# Altium footprint library Header.PcbLib: 112 footprints (part 6 of 7)
Each footprint in its own frame and in the unit in brackets; x right, y up, seen from the top. Pads: shape width x height; smd on the part's side, far side on the other; paste and mask are expansions set on the pad; w line width, h text height; cw(c..) or ccw(c..) is an arc to the next point about the centre after c.
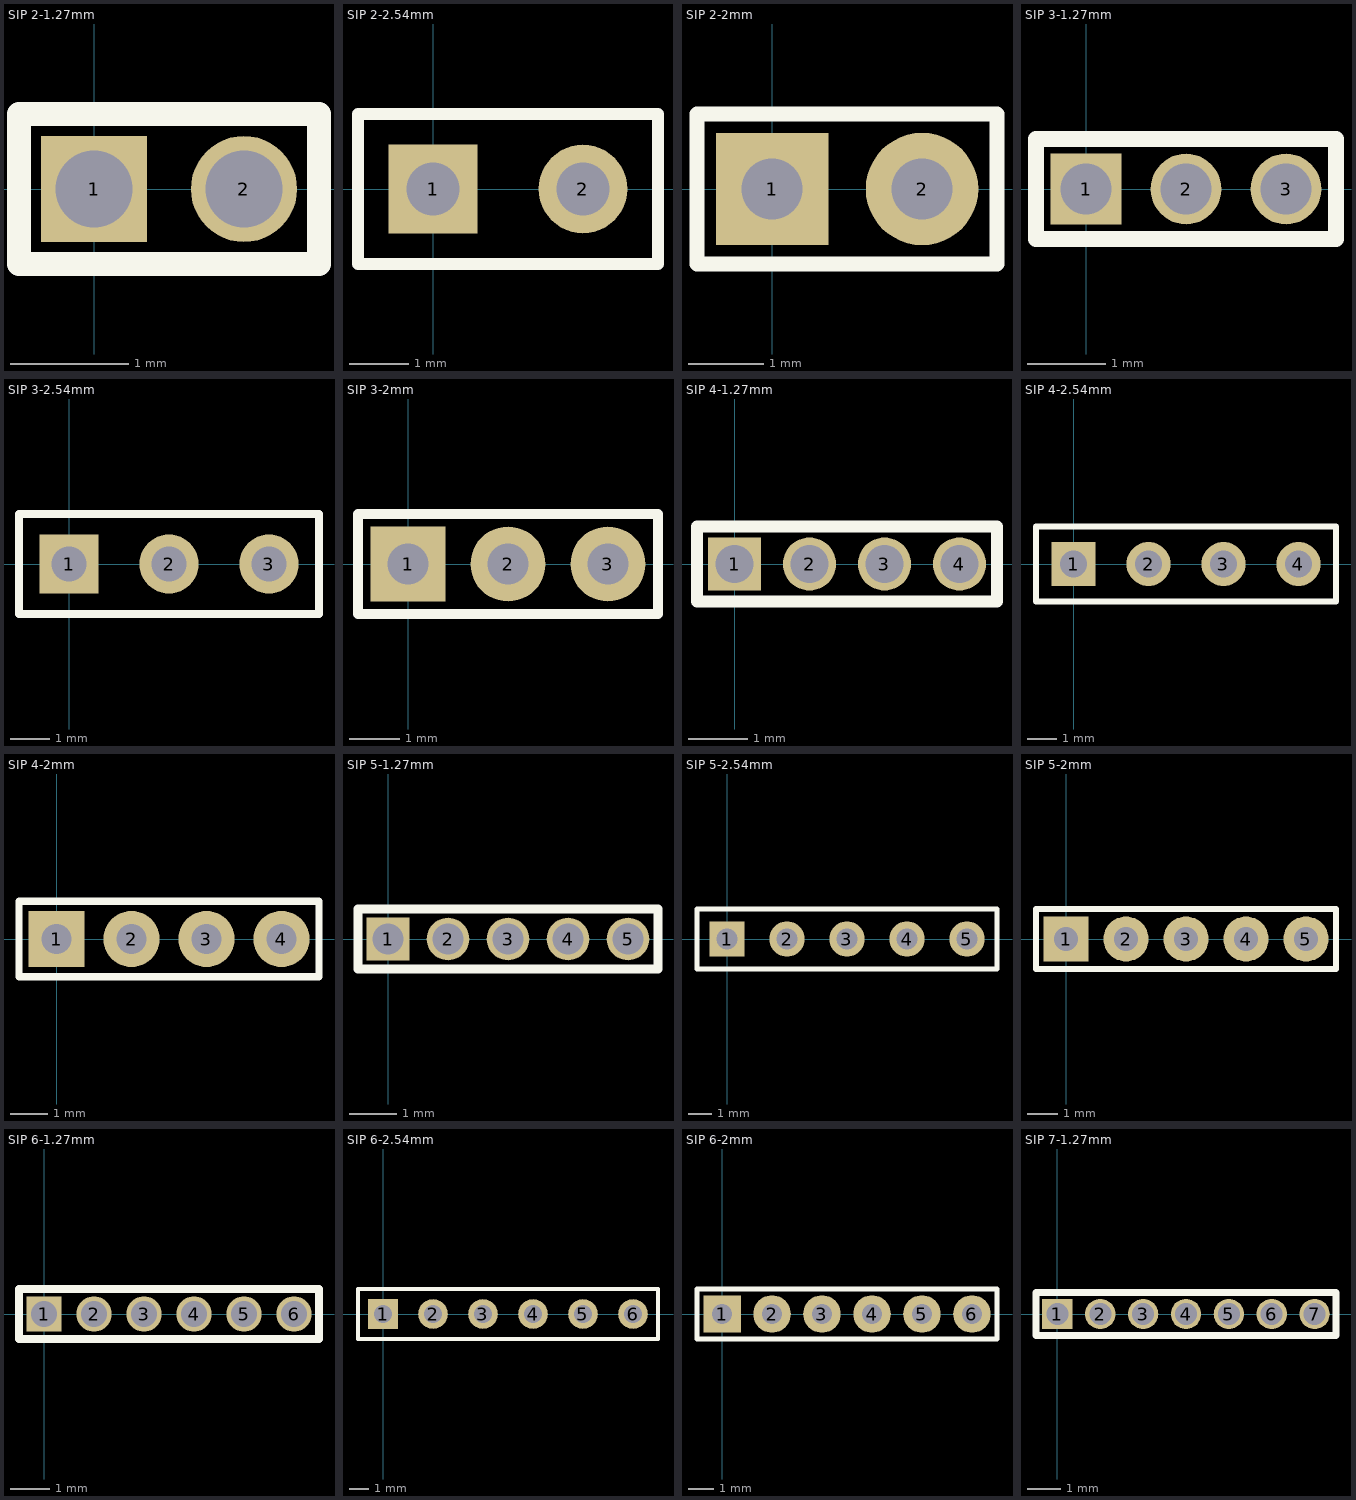
[diagram p5: the footprints below, top view; thin cyan lines are the x and y axes]

## SIP 2-1.27mm [mm]
pads (2):
  rect 0.9x0.9 hole 0.65: 1(0,0)
  round 0.9 hole 0.65: 2(1.27,0)
Top Overlay:
  lines w0.2: -0.635,-0.635 1.905,-0.635 1.905,0.635 -0.635,0.635 -0.635,-0.635
3D body: height 1, standoff 0, extent -0.625,-0.625 1.905,0.625
3D body: height 4, standoff 0, extent -0.2,-0.2 0.2,0.2
3D body: height 4, standoff 0, extent 1.07,-0.2 1.47,0.2

## SIP 2-2.54mm [mm]
pads (2):
  rect 1.5x1.5 hole 0.9: 1(0,0)
  round 1.5 hole 0.9: 2(2.54,0)
Top Overlay:
  lines w0.2: -1.27,-1.27 3.81,-1.27 3.81,1.27 -1.27,1.27 -1.27,-1.27
3D body: height 7.5, standoff 0, extent 2.215,-0.325 2.865,0.325
3D body: height 1.5, standoff 0, extent -1.275,-1.275 3.81,1.275
3D body: height 7.5, standoff 0, extent -0.325,-0.325 0.325,0.325

## SIP 2-2mm [mm]
pads (2):
  rect 1.5x1.5 hole 0.813: 1(0,0)
  round 1.5 hole 0.813: 2(2,0)
Top Overlay:
  lines w0.2: -1,-1 -1,1 3,1 3,-1 -1,-1
3D body: height 1.5, standoff 0, extent -1,-1 3,1
3D body: height 5.5, standoff 0, extent -0.25,-0.25 0.25,0.25
3D body: height 5.5, standoff 0, extent 1.75,-0.25 2.25,0.25

## SIP 3-1.27mm [mm]
pads (3):
  rect 0.9x0.9 hole 0.65: 1(0,0)
  round 0.9 hole 0.65: 2(1.27,0) 3(2.54,0)
Top Overlay:
  lines w0.2: -0.635,-0.635 3.175,-0.635 3.175,0.635 -0.635,0.635 -0.635,-0.635
3D body: height 1, standoff 0, extent -0.625,-0.625 3.175,0.625
3D body: height 4, standoff 0, extent -0.2,-0.2 0.2,0.2
3D body: height 4, standoff 0, extent 1.07,-0.2 1.47,0.2
3D body: height 4, standoff 0, extent 2.34,-0.2 2.74,0.2

## SIP 3-2.54mm [mm]
pads (3):
  rect 1.5x1.5 hole 0.9: 1(0,0)
  round 1.5 hole 0.9: 2(2.54,0) 3(5.08,0)
Top Overlay:
  lines w0.2: -1.27,-1.27 -1.27,1.27 6.35,1.27 6.35,-1.27 -1.27,-1.27
3D body: height 7.5, standoff 0, extent -0.325,-0.325 0.325,0.325
3D body: height 1.5, standoff 0, extent -1.275,-1.275 6.35,1.275
3D body: height 7.5, standoff 0, extent 2.215,-0.325 2.865,0.325
3D body: height 7.5, standoff 0, extent 4.755,-0.325 5.405,0.325

## SIP 3-2mm [mm]
pads (3):
  rect 1.5x1.5 hole 0.813: 1(0,0)
  round 1.5 hole 0.813: 2(2,0) 3(4,0)
Top Overlay:
  lines w0.2: -1,-1 -1,1 5,1 5,-1 -1,-1
3D body: height 1.5, standoff 0, extent -1,-1 5,1
3D body: height 5.5, standoff 0, extent -0.25,-0.25 0.25,0.25
3D body: height 5.5, standoff 0, extent 1.75,-0.25 2.25,0.25
3D body: height 5.5, standoff 0, extent 3.75,-0.25 4.25,0.25

## SIP 4-1.27mm [mm]
pads (4):
  rect 0.9x0.9 hole 0.65: 1(0,0)
  round 0.9 hole 0.65: 2(1.27,0) 3(2.54,0) 4(3.81,0)
Top Overlay:
  lines w0.2: -0.635,-0.635 4.445,-0.635 4.445,0.635 -0.635,0.635 -0.635,-0.635
3D body: height 1, standoff 0, extent -0.625,-0.625 4.445,0.625
3D body: height 4, standoff 0, extent -0.2,-0.2 0.2,0.2
3D body: height 4, standoff 0, extent 1.07,-0.2 1.47,0.2
3D body: height 4, standoff 0, extent 2.34,-0.2 2.74,0.2
3D body: height 4, standoff 0, extent 3.61,-0.2 4.01,0.2

## SIP 4-2.54mm [mm]
pads (4):
  rect 1.5x1.5 hole 0.9: 1(0,0)
  round 1.5 hole 0.9: 2(2.54,0) 3(5.08,0) 4(7.62,0)
Top Overlay:
  lines w0.2: -1.27,-1.27 -1.27,1.27 8.89,1.27 8.89,-1.27 -1.27,-1.27
3D body: height 7.5, standoff 0, extent -0.325,-0.325 0.325,0.325
3D body: height 1.5, standoff 0, extent -1.275,-1.275 8.89,1.275
3D body: height 7.5, standoff 0, extent 2.215,-0.325 2.865,0.325
3D body: height 7.5, standoff 0, extent 4.755,-0.325 5.405,0.325
3D body: height 7.5, standoff 0, extent 7.295,-0.325 7.945,0.325

## SIP 4-2mm [mm]
pads (4):
  rect 1.5x1.5 hole 0.813: 1(0,0)
  round 1.5 hole 0.813: 2(2,0) 3(4,0) 4(6,0)
Top Overlay:
  lines w0.2: -1,-1 7,-1 7,1 -1,1 -1,-1
3D body: height 5.5, standoff 0, extent 5.75,-0.25 6.25,0.25
3D body: height 5.5, standoff 0, extent 3.75,-0.25 4.25,0.25
3D body: height 5.5, standoff 0, extent 1.75,-0.25 2.25,0.25
3D body: height 5.5, standoff 0, extent -0.25,-0.25 0.25,0.25
3D body: height 1.5, standoff 0, extent -1,-1 7,1

## SIP 5-1.27mm [mm]
pads (5):
  rect 0.9x0.9 hole 0.65: 1(0,0)
  round 0.9 hole 0.65: 2(1.27,0) 3(2.54,0) 4(3.81,0) 5(5.08,0)
Top Overlay:
  lines w0.2: -0.635,-0.635 -0.635,0.635 5.715,0.635 5.715,-0.635 -0.635,-0.635
3D body: height 4, standoff 0, extent 4.88,-0.2 5.28,0.2
3D body: height 4, standoff 0, extent 3.61,-0.2 4.01,0.2
3D body: height 4, standoff 0, extent 2.34,-0.2 2.74,0.2
3D body: height 4, standoff 0, extent 1.07,-0.2 1.47,0.2
3D body: height 4, standoff 0, extent -0.2,-0.2 0.2,0.2
3D body: height 1, standoff 0, extent -0.625,-0.625 5.715,0.625

## SIP 5-2.54mm [mm]
pads (5):
  rect 1.5x1.5 hole 0.9: 1(0,0)
  round 1.5 hole 0.9: 2(2.54,0) 3(5.08,0) 4(7.62,0) 5(10.16,0)
Top Overlay:
  lines w0.2: -1.27,-1.27 -1.27,1.27 11.43,1.27 11.43,-1.27 -1.27,-1.27
3D body: height 7.5, standoff 0, extent -0.325,-0.325 0.325,0.325
3D body: height 1.5, standoff 0, extent -1.275,-1.275 11.43,1.275
3D body: height 7.5, standoff 0, extent 2.215,-0.325 2.865,0.325
3D body: height 7.5, standoff 0, extent 4.755,-0.325 5.405,0.325
3D body: height 7.5, standoff 0, extent 9.835,-0.325 10.485,0.325
3D body: height 7.5, standoff 0, extent 7.295,-0.325 7.945,0.325

## SIP 5-2mm [mm]
pads (5):
  rect 1.5x1.5 hole 0.813: 1(0,0)
  round 1.5 hole 0.813: 2(2,0) 3(4,0) 4(6,0) 5(8,0)
Top Overlay:
  lines w0.2: -1,-1 -1,1 9,1 9,-1 -1,-1
3D body: height 5.5, standoff 0, extent 7.75,-0.25 8.25,0.25
3D body: height 5.5, standoff 0, extent 5.75,-0.25 6.25,0.25
3D body: height 5.5, standoff 0, extent 3.75,-0.25 4.25,0.25
3D body: height 5.5, standoff 0, extent 1.75,-0.25 2.25,0.25
3D body: height 5.5, standoff 0, extent -0.25,-0.25 0.25,0.25
3D body: height 1.5, standoff 0, extent -1,-1 9.017,1

## SIP 6-1.27mm [mm]
pads (6):
  rect 0.9x0.9 hole 0.65: 1(0,0)
  round 0.9 hole 0.65: 2(1.27,0) 3(2.54,0) 4(3.81,0) 5(5.08,0) 6(6.35,0)
Top Overlay:
  lines w0.2: -0.635,-0.635 -0.635,0.635 6.985,0.635 6.985,-0.635 -0.635,-0.635
3D body: height 4, standoff 0, extent 6.15,-0.2 6.55,0.2
3D body: height 4, standoff 0, extent 4.88,-0.2 5.28,0.2
3D body: height 4, standoff 0, extent 3.61,-0.2 4.01,0.2
3D body: height 4, standoff 0, extent 2.34,-0.2 2.74,0.2
3D body: height 4, standoff 0, extent 1.07,-0.2 1.47,0.2
3D body: height 4, standoff 0, extent -0.2,-0.2 0.2,0.2
3D body: height 1, standoff 0, extent -0.625,-0.625 6.985,0.625

## SIP 6-2.54mm [mm]
pads (6):
  rect 1.5x1.5 hole 0.9: 1(0,0)
  round 1.5 hole 0.9: 2(2.54,0) 3(5.08,0) 4(7.62,0) 5(10.16,0) 6(12.7,0)
Top Overlay:
  lines w0.2: -1.27,-1.27 -1.27,1.27 13.97,1.27 13.97,-1.27 -1.27,-1.27
3D body: height 7.5, standoff 0, extent -0.325,-0.325 0.325,0.325
3D body: height 1.5, standoff 0, extent -1.275,-1.275 13.97,1.275
3D body: height 7.5, standoff 0, extent 2.215,-0.325 2.865,0.325
3D body: height 7.5, standoff 0, extent 4.755,-0.325 5.405,0.325
3D body: height 7.5, standoff 0, extent 9.835,-0.325 10.485,0.325
3D body: height 7.5, standoff 0, extent 7.295,-0.325 7.945,0.325
3D body: height 7.5, standoff 0, extent 12.375,-0.325 13.025,0.325

## SIP 6-2mm [mm]
pads (6):
  rect 1.5x1.5 hole 0.813: 1(0,0)
  round 1.5 hole 0.813: 2(2,0) 3(4,0) 4(6,0) 5(8,0) 6(10,0)
Top Overlay:
  lines w0.2: -1,-1 -1,1 11,1 11,-1 -1,-1
3D body: height 5.5, standoff 0, extent 9.75,-0.25 10.25,0.25
3D body: height 5.5, standoff 0, extent 7.75,-0.25 8.25,0.25
3D body: height 5.5, standoff 0, extent 5.75,-0.25 6.25,0.25
3D body: height 5.5, standoff 0, extent 3.75,-0.25 4.25,0.25
3D body: height 5.5, standoff 0, extent 1.75,-0.25 2.25,0.25
3D body: height 5.5, standoff 0, extent -0.25,-0.25 0.25,0.25
3D body: height 1.5, standoff 0, extent -1,-1 11,1

## SIP 7-1.27mm [mm]
pads (7):
  rect 0.9x0.9 hole 0.65: 1(0,0)
  round 0.9 hole 0.65: 2(1.27,0) 3(2.54,0) 4(3.81,0) 5(5.08,0) 6(6.35,0) 7(7.62,0)
Top Overlay:
  lines w0.2: -0.635,-0.635 8.255,-0.635 8.255,0.635 -0.635,0.635 -0.635,-0.635
3D body: height 1, standoff 0, extent -0.625,-0.625 8.255,0.625
3D body: height 4, standoff 0, extent -0.2,-0.2 0.2,0.2
3D body: height 4, standoff 0, extent 1.07,-0.2 1.47,0.2
3D body: height 4, standoff 0, extent 2.34,-0.2 2.74,0.2
3D body: height 4, standoff 0, extent 3.61,-0.2 4.01,0.2
3D body: height 4, standoff 0, extent 4.88,-0.2 5.28,0.2
3D body: height 4, standoff 0, extent 6.15,-0.2 6.55,0.2
3D body: height 4, standoff 0, extent 7.42,-0.2 7.82,0.2